# EAGLE library part IC_PIC_40P_16F877,877A_ (library mylib_20130829)
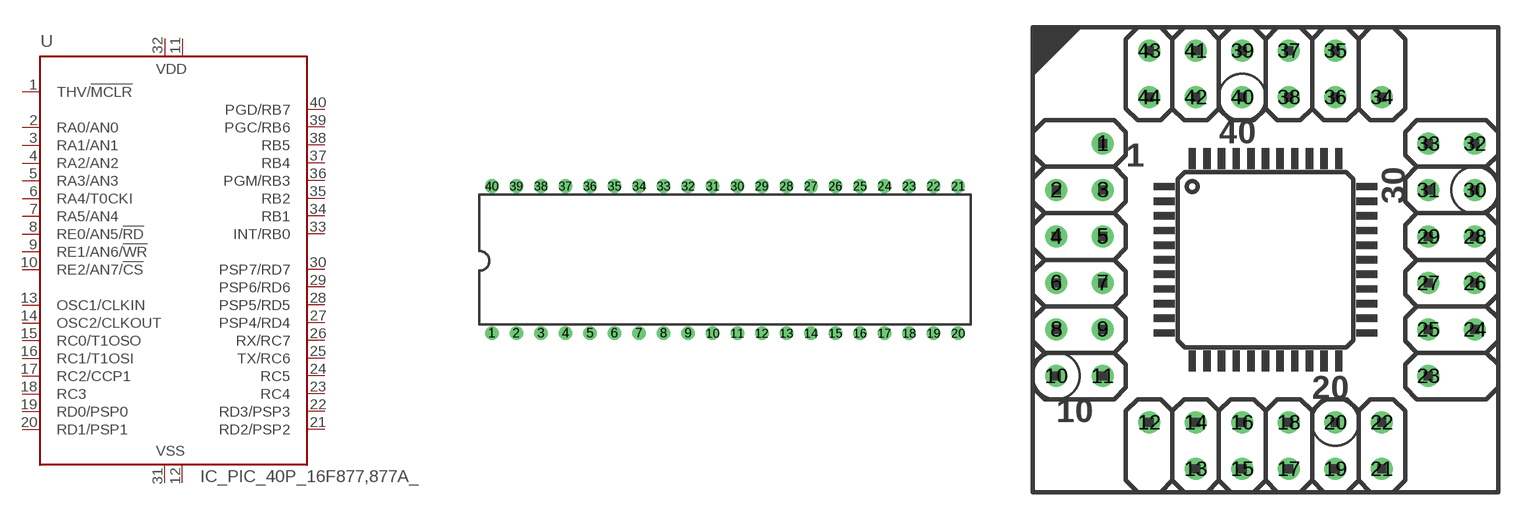
[diagram p7: symbol with the pads of IC_SOCKET_DIL_40_600MIL; footprints IC_SOCKET_DIL_40_600MIL, BOARD_HENKAN_QFP44]

Designator prefix U

## IC_PIC_40P_16F877,877A_DIP  [IC_SOCKET_DIL_40_600MIL]
1  THV/!MCLR  in
2  RA0/AN0
3  RA1/AN1
4  RA2/AN2
5  RA3/AN3
6  RA4/T0CKI
7  RA5/AN4
8  RE0/AN5/!RD
9  RE1/AN6/!WR
10  RE2/AN7/!CS
11  VDD  pwr
12  VSS  pwr
13  OSC1/CLKIN  in
14  OSC2/CLKOUT  out
15  RC0/T1OSO
16  RC1/T1OSI
17  RC2/CCP1
18  RC3
19  RD0/PSP0
20  RD1/PSP1
21  RD2/PSP2
22  RD3/PSP3
23  RC4
24  RC5
25  TX/RC6
26  RX/RC7
27  PSP4/RD4
28  PSP5/RD5
29  PSP6/RD6
30  PSP7/RD7
31  VSS  pwr
32  VDD  pwr
33  INT/RB0
34  RB1
35  RB2
36  PGM/RB3
37  RB4
38  RB5
39  PGC/RB6
40  PGD/RB7

## IC_PIC_40P_16F877,877A_QFP  [BOARD_HENKAN_QFP44]
1  RX/RC7
2  PSP4/RD4
3  PSP5/RD5
4  PSP6/RD6
5  PSP7/RD7
6  VSS  pwr
7  VDD  pwr
8  INT/RB0
9  RB1
10  RB2
11  PGM/RB3
14  RB4
15  RB5
16  PGC/RB6
17  PGD/RB7
18  THV/!MCLR  in
19  RA0/AN0
20  RA1/AN1
21  RA2/AN2
22  RA3/AN3
23  RA4/T0CKI
24  RA5/AN4
25  RE0/AN5/!RD
26  RE1/AN6/!WR
27  RE2/AN7/!CS
28  VDD  pwr
29  VSS  pwr
30  OSC1/CLKIN  in
31  OSC2/CLKOUT  out
32  RC0/T1OSO
35  RC1/T1OSI
36  RC2/CCP1
37  RC3
38  RD0/PSP0
39  RD1/PSP1
40  RD2/PSP2
41  RD3/PSP3
42  RC4
43  RC5
44  TX/RC6

## Footprint IC_SOCKET_DIL_40_600MIL (pad centres in mm)
Dual In Line Package
drill 0.889: 1 -24.13,-7.62; 2 -21.59,-7.62; 3 -19.05,-7.62; 4 -16.51,-7.62; 5 -13.97,-7.62; 6 -11.43,-7.62; 7 -8.89,-7.62; 8 -6.35,-7.62; 9 -3.81,-7.62; 10 -1.27,-7.62; 11 1.27,-7.62; 12 3.81,-7.62; 13 6.35,-7.62; 14 8.89,-7.62; 15 11.43,-7.62; 16 13.97,-7.62; 17 16.51,-7.62; 18 19.05,-7.62; 19 21.59,-7.62; 20 24.13,-7.62; 21 24.13,7.62; 22 21.59,7.62; 23 19.05,7.62; 24 16.51,7.62; 25 13.97,7.62; 26 11.43,7.62; 27 8.89,7.62; 28 6.35,7.62; 29 3.81,7.62; 30 1.27,7.62; 31 -1.27,7.62; 32 -3.81,7.62; 33 -6.35,7.62; 34 -8.89,7.62; 35 -11.43,7.62; 36 -13.97,7.62; 37 -16.51,7.62; 38 -19.05,7.62; 39 -21.59,7.62; 40 -24.13,7.62

## Footprint BOARD_HENKAN_QFP44 (pad centres in mm)
drill 0.7: 1 -8.89,6.35; 2 -11.43,3.81; 3 -8.89,3.81; 4 -11.43,1.27; 5 -8.89,1.27; 6 -11.43,-1.27; 7 -8.89,-1.27; 8 -11.43,-3.81; 9 -8.89,-3.81; 10 -11.43,-6.35; 11 -8.89,-6.35; 12 -6.35,-8.89; 13 -3.81,-11.43; 14 -3.81,-8.89; 15 -1.27,-11.43; 16 -1.27,-8.89; 17 1.27,-11.43; 18 1.27,-8.89; 19 3.81,-11.43; 20 3.81,-8.89; 21 6.35,-11.43; 22 6.35,-8.89; 23 8.89,-6.35; 24 11.43,-3.81; 25 8.89,-3.81; 26 11.43,-1.27; 27 8.89,-1.27; 28 11.43,1.27; 29 8.89,1.27; 30 11.43,3.81; 31 8.89,3.81; 32 11.43,6.35; 33 8.89,6.35; 34 6.35,8.89; 35 3.81,11.43; 36 3.81,8.89; 37 1.27,11.43; 38 1.27,8.89; 39 -1.27,11.43; 40 -1.27,8.89; 41 -3.81,11.43; 42 -3.81,8.89; 43 -6.35,11.43; 44 -6.35,8.89